# EAGLE library part TEXAS_INSTRUMENTS-SENSOR-HDC2080DMBR (library Module_ICs)
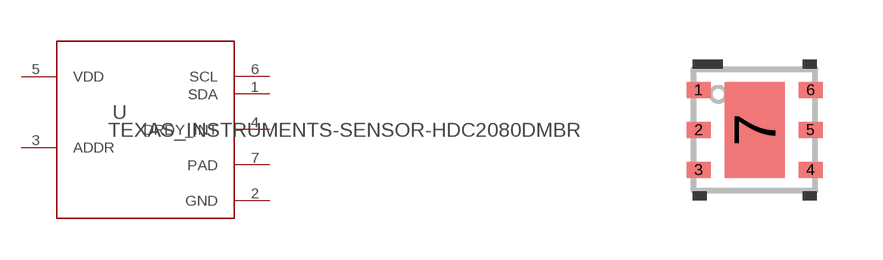
[diagram p38: symbol with the pads of TEXAS_INSTRUMENTS-SENSOR-HDC2080DMBR; footprint TEXAS_INSTRUMENTS-SENSOR-HDC2080DMBR]

Designator prefix U

## TEXAS_INSTRUMENTS-SENSOR-HDC2080DMBR (MANUFACTURER: Texas Instruments; PARTNUMBER: HDC2080DMBR; REFDES: RefDes; TYPE: TYPE; VALUE: Value)  [TEXAS_INSTRUMENTS-SENSOR-HDC2080DMBR]
1  SDA
2  GND  pwr
3  ADDR  in
4  DRDY_INT  out
5  VDD  pwr
6  SCL  oc
7  PAD  pas

## Footprint TEXAS_INSTRUMENTS-SENSOR-HDC2080DMBR (pad centres in mm)
smd 0.6 x 0.4: 1 -1.4,1; 2 -1.4,0; 3 -1.4,-1; 4 1.4,-1; 5 1.4,0; 6 1.4,1
smd 1.5 x 2.4: 7 0,0